# Altium integrated library Maxim Supervisors, Voltage Monitors and Sequencers.IntLib: 631 symbols (part 3 of 13)
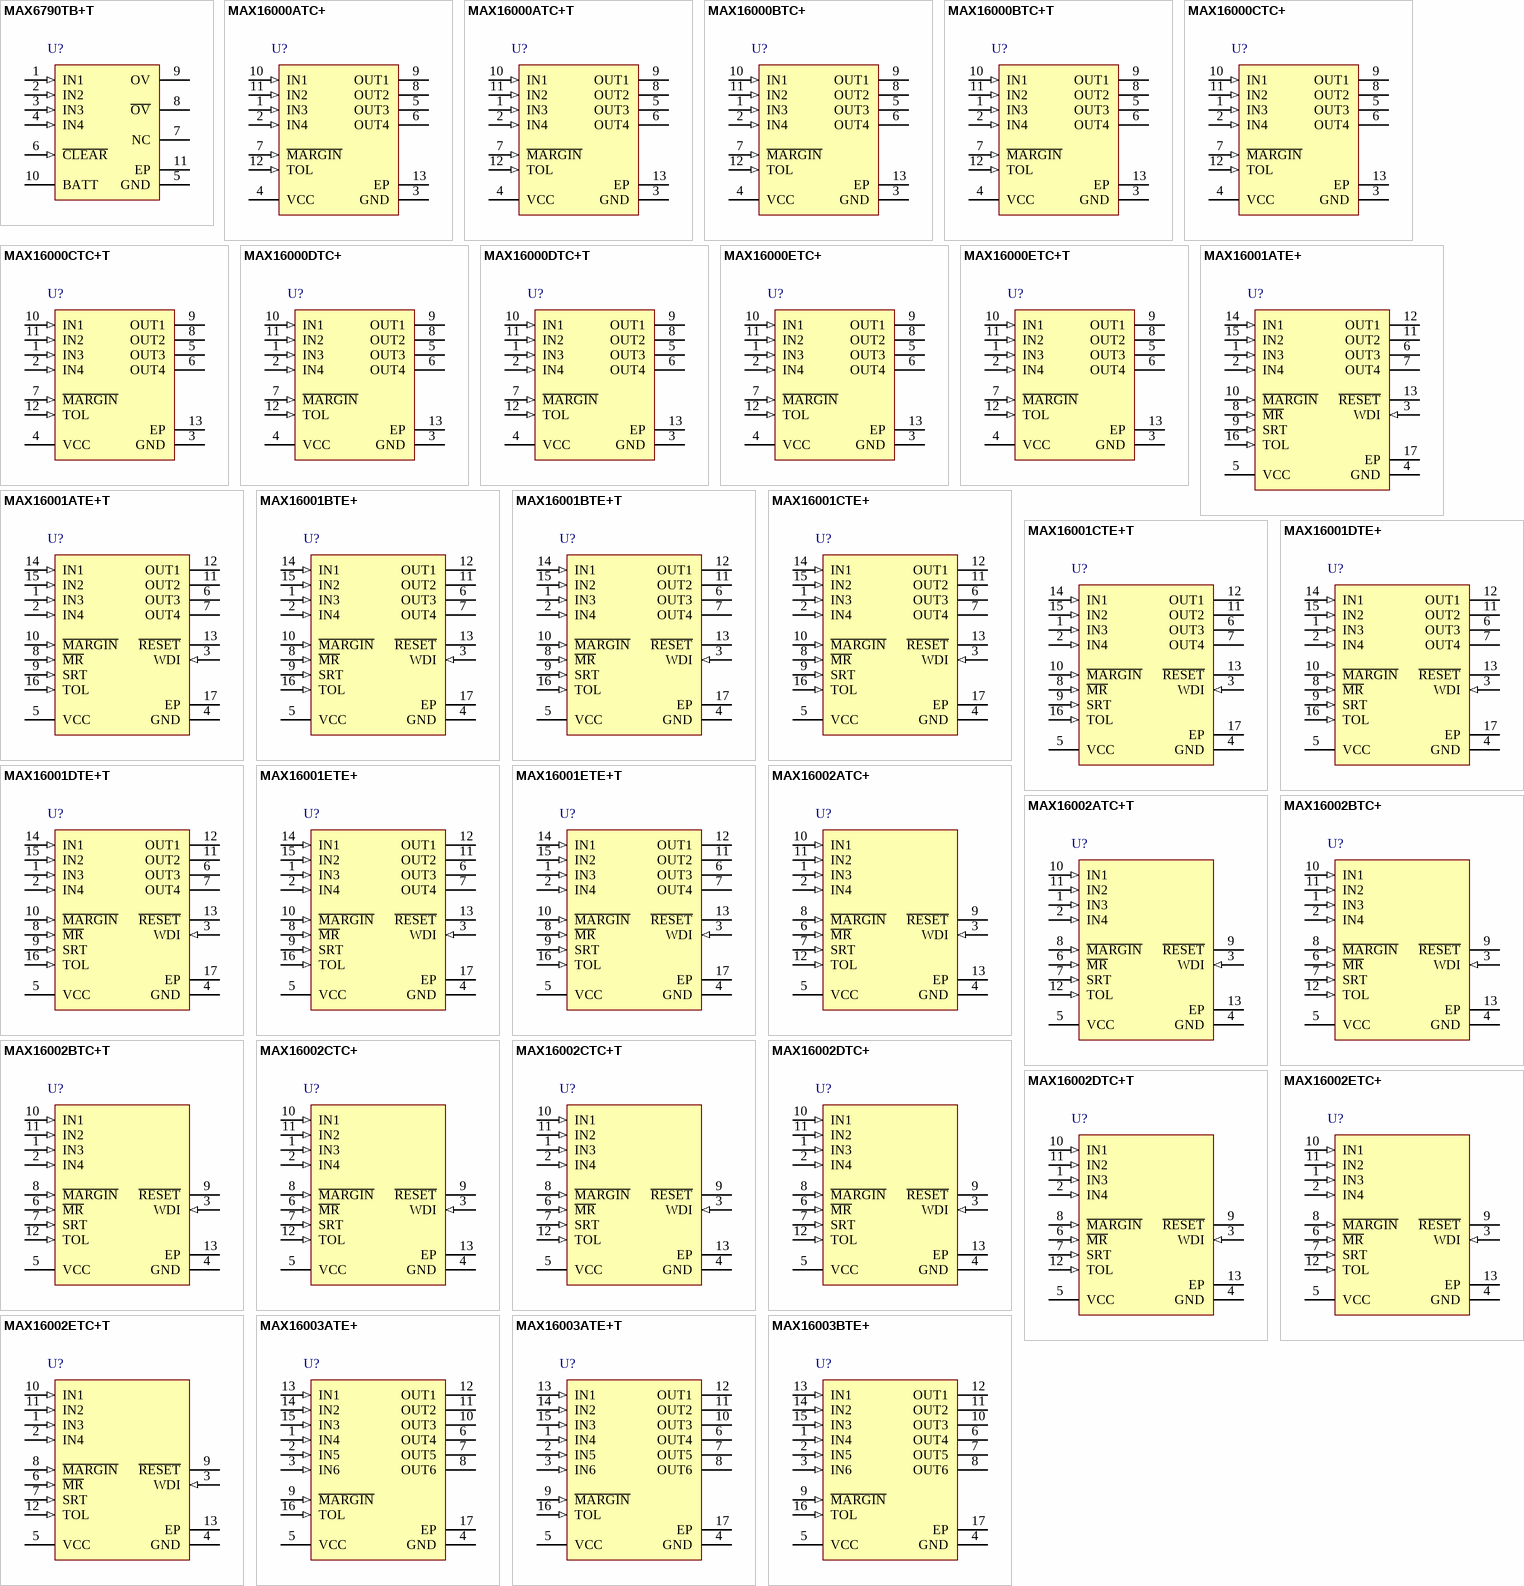
[diagram p19: symbols MAX6790TB+T to MAX16003BTE+]

## MAX16001DTE+T
designator U?
Low-Voltage, Quad-Voltage uP Supervisor , 4 outputs, Reset, WDI, MR, adjustable reset timout, 16-Pin TQFN-EP, -40°C to +125°C, Pb-Free, Tape and Reel; DatasheetVersion: Rev 5, Oct-2010; PackageVersion: revK, 2011; PackageReference: T1644+4; PackageDescription: 16-Pin Thin Quad Flatpack, No-Leads (TQFN), 4 x 4 x 0.75 mm Body, 0.65 mm Pitch, Exposed Pad, Pb-Free; Code_JEDEC: MO-220WGGC; ComponentLink1Description: Manufacturer URL; ComponentLink1URL: http://www.maxim-ic.com; ComponentLink2Description: Datasheet; ComponentLink2URL: http://datasheets.maxim-ic.com/en/ds/MAX16000-MAX16007.pdf; ComponentLink3Description: Package Specification; ComponentLink3URL: http://pdfserv.maxim-ic.com/package_dwgs/21-0139.PDF
footprint T1644+4_N (QFN, 16-Leads, Body 4x4mm, Pitch 0.65mm, Thermal Pad 2.3x2.3mm, IPC Medium Density)
footprint T1644+4_L (QFN, 16-Leads, Body 4x4mm, Pitch 0.65mm, Thermal Pad 2.3x2.3mm, IPC High Density)
footprint T1644+4_M (QFN, 16-Leads, Body 4x4mm, Pitch 0.65mm, Thermal Pad 2.3x2.3mm, IPC Low Density)
pins: 1 IN3 (in), 2 IN4 (in), 3 WDI (in), 4 GND (power), 5 VCC (power), 6 OUT3 (oc), 7 OUT4 (oc), 8 ~{MR} (in), 9 SRT (in), 10 ~{MARGIN} (in), 11 OUT2 (oc), 12 OUT1 (oc), 13 ~{RESET} (oc), 14 IN1 (in), 15 IN2 (in), 16 TOL (in), 17 EP (power)

## MAX16001ETE+
designator U?
Low-Voltage, Quad-Voltage uP Supervisor , 4 outputs, Reset, WDI, MR, adjustable reset timout, 16-Pin TQFN-EP, -40°C to +125°C, Pb-Free; DatasheetVersion: Rev 5, Oct-2010; PackageVersion: revK, 2011; PackageReference: T1644+4; PackageDescription: 16-Pin Thin Quad Flatpack, No-Leads (TQFN), 4 x 4 x 0.75 mm Body, 0.65 mm Pitch, Exposed Pad, Pb-Free; Code_JEDEC: MO-220WGGC; ComponentLink1Description: Manufacturer URL; ComponentLink1URL: http://www.maxim-ic.com; ComponentLink2Description: Datasheet; ComponentLink2URL: http://datasheets.maxim-ic.com/en/ds/MAX16000-MAX16007.pdf; ComponentLink3Description: Package Specification; ComponentLink3URL: http://pdfserv.maxim-ic.com/package_dwgs/21-0139.PDF
footprint T1644+4_N (QFN, 16-Leads, Body 4x4mm, Pitch 0.65mm, Thermal Pad 2.3x2.3mm, IPC Medium Density)
footprint T1644+4_L (QFN, 16-Leads, Body 4x4mm, Pitch 0.65mm, Thermal Pad 2.3x2.3mm, IPC High Density)
footprint T1644+4_M (QFN, 16-Leads, Body 4x4mm, Pitch 0.65mm, Thermal Pad 2.3x2.3mm, IPC Low Density)
pins: 1 IN3 (in), 2 IN4 (in), 3 WDI (in), 4 GND (power), 5 VCC (power), 6 OUT3 (oc), 7 OUT4 (oc), 8 ~{MR} (in), 9 SRT (in), 10 ~{MARGIN} (in), 11 OUT2 (oc), 12 OUT1 (oc), 13 ~{RESET} (oc), 14 IN1 (in), 15 IN2 (in), 16 TOL (in), 17 EP (power)

## MAX16001ETE+T
designator U?
Low-Voltage, Quad-Voltage uP Supervisor , 4 outputs, Reset, WDI, MR, adjustable reset timout, 16-Pin TQFN-EP, -40°C to +125°C, Pb-Free, Tape and Reel; DatasheetVersion: Rev 5, Oct-2010; PackageVersion: revK, 2011; PackageReference: T1644+4; PackageDescription: 16-Pin Thin Quad Flatpack, No-Leads (TQFN), 4 x 4 x 0.75 mm Body, 0.65 mm Pitch, Exposed Pad, Pb-Free; Code_JEDEC: MO-220WGGC; ComponentLink1Description: Manufacturer URL; ComponentLink1URL: http://www.maxim-ic.com; ComponentLink2Description: Datasheet; ComponentLink2URL: http://datasheets.maxim-ic.com/en/ds/MAX16000-MAX16007.pdf; ComponentLink3Description: Package Specification; ComponentLink3URL: http://pdfserv.maxim-ic.com/package_dwgs/21-0139.PDF
footprint T1644+4_N (QFN, 16-Leads, Body 4x4mm, Pitch 0.65mm, Thermal Pad 2.3x2.3mm, IPC Medium Density)
footprint T1644+4_L (QFN, 16-Leads, Body 4x4mm, Pitch 0.65mm, Thermal Pad 2.3x2.3mm, IPC High Density)
footprint T1644+4_M (QFN, 16-Leads, Body 4x4mm, Pitch 0.65mm, Thermal Pad 2.3x2.3mm, IPC Low Density)
pins: 1 IN3 (in), 2 IN4 (in), 3 WDI (in), 4 GND (power), 5 VCC (power), 6 OUT3 (oc), 7 OUT4 (oc), 8 ~{MR} (in), 9 SRT (in), 10 ~{MARGIN} (in), 11 OUT2 (oc), 12 OUT1 (oc), 13 ~{RESET} (oc), 14 IN1 (in), 15 IN2 (in), 16 TOL (in), 17 EP (power)

## MAX16002ATC+
designator U?
Low-Voltage, Quad-Voltage uP Supervisor , Reset, WDI, MR, adjustable reset timout, 12-Pin TQFN-EP, -40°C to +125°C, Pb-Free; DatasheetVersion: Rev 5, Oct-2010; PackageVersion: revJ, 2011; PackageReference: T1244+4; PackageDescription: 12-Pin Thin Quad Flatpack, No Leads, 4 x 4 x 0.75 mm Body, 0.8 mm Pitch, TQFN, Pb-Free; Code_JEDEC: MO-220WGGB; ComponentLink1Description: Manufacturer URL; ComponentLink1URL: http://www.maxim-ic.com; ComponentLink2Description: Datasheet; ComponentLink2URL: http://datasheets.maxim-ic.com/en/ds/MAX16000-MAX16007.pdf; ComponentLink3Description: Package Specification; ComponentLink3URL: http://pdfserv.maxim-ic.com/package_dwgs/21-0139.PDF
footprint T1244+4_V (QFN, 12-Leads, Body 4x4mm, Pitch 0.8mm, Thermal Pad 2.23x2.23mm, Maxim Recommended)
pins: 1 IN3 (in), 2 IN4 (in), 3 WDI (in), 4 GND (power), 5 VCC (power), 6 ~{MR} (in), 7 SRT (in), 8 ~{MARGIN} (in), 9 ~{RESET} (oc), 10 IN1 (in), 11 IN2 (in), 12 TOL (in), 13 EP (power)

## MAX16002ATC+T
designator U?
Low-Voltage, Quad-Voltage uP Supervisor , Reset, WDI, MR, adjustable reset timout, 12-Pin TQFN-EP, -40°C to +125°C, Pb-Free, Tape and Reel; DatasheetVersion: Rev 5, Oct-2010; PackageVersion: revJ, 2011; PackageReference: T1244+4; PackageDescription: 12-Pin Thin Quad Flatpack, No Leads, 4 x 4 x 0.75 mm Body, 0.8 mm Pitch, TQFN, Pb-Free; Code_JEDEC: MO-220WGGB; ComponentLink1Description: Manufacturer URL; ComponentLink1URL: http://www.maxim-ic.com; ComponentLink2Description: Datasheet; ComponentLink2URL: http://datasheets.maxim-ic.com/en/ds/MAX16000-MAX16007.pdf; ComponentLink3Description: Package Specification; ComponentLink3URL: http://pdfserv.maxim-ic.com/package_dwgs/21-0139.PDF
footprint T1244+4_V (QFN, 12-Leads, Body 4x4mm, Pitch 0.8mm, Thermal Pad 2.23x2.23mm, Maxim Recommended)
pins: 1 IN3 (in), 2 IN4 (in), 3 WDI (in), 4 GND (power), 5 VCC (power), 6 ~{MR} (in), 7 SRT (in), 8 ~{MARGIN} (in), 9 ~{RESET} (oc), 10 IN1 (in), 11 IN2 (in), 12 TOL (in), 13 EP (power)

## MAX16002BTC+
designator U?
Low-Voltage, Quad-Voltage uP Supervisor , Reset, WDI, MR, adjustable reset timout, 12-Pin TQFN-EP, -40°C to +125°C, Pb-Free; DatasheetVersion: Rev 5, Oct-2010; PackageVersion: revJ, 2011; PackageReference: T1244+4; PackageDescription: 12-Pin Thin Quad Flatpack, No Leads, 4 x 4 x 0.75 mm Body, 0.8 mm Pitch, TQFN, Pb-Free; Code_JEDEC: MO-220WGGB; ComponentLink1Description: Manufacturer URL; ComponentLink1URL: http://www.maxim-ic.com; ComponentLink2Description: Datasheet; ComponentLink2URL: http://datasheets.maxim-ic.com/en/ds/MAX16000-MAX16007.pdf; ComponentLink3Description: Package Specification; ComponentLink3URL: http://pdfserv.maxim-ic.com/package_dwgs/21-0139.PDF
footprint T1244+4_V (QFN, 12-Leads, Body 4x4mm, Pitch 0.8mm, Thermal Pad 2.23x2.23mm, Maxim Recommended)
pins: 1 IN3 (in), 2 IN4 (in), 3 WDI (in), 4 GND (power), 5 VCC (power), 6 ~{MR} (in), 7 SRT (in), 8 ~{MARGIN} (in), 9 ~{RESET} (oc), 10 IN1 (in), 11 IN2 (in), 12 TOL (in), 13 EP (power)

## MAX16002BTC+T
designator U?
Low-Voltage, Quad-Voltage uP Supervisor , Reset, WDI, MR, adjustable reset timout, 12-Pin TQFN-EP, -40°C to +125°C, Pb-Free, Tape and Reel; DatasheetVersion: Rev 5, Oct-2010; PackageVersion: revJ, 2011; PackageReference: T1244+4; PackageDescription: 12-Pin Thin Quad Flatpack, No Leads, 4 x 4 x 0.75 mm Body, 0.8 mm Pitch, TQFN, Pb-Free; Code_JEDEC: MO-220WGGB; ComponentLink1Description: Manufacturer URL; ComponentLink1URL: http://www.maxim-ic.com; ComponentLink2Description: Datasheet; ComponentLink2URL: http://datasheets.maxim-ic.com/en/ds/MAX16000-MAX16007.pdf; ComponentLink3Description: Package Specification; ComponentLink3URL: http://pdfserv.maxim-ic.com/package_dwgs/21-0139.PDF
footprint T1244+4_V (QFN, 12-Leads, Body 4x4mm, Pitch 0.8mm, Thermal Pad 2.23x2.23mm, Maxim Recommended)
pins: 1 IN3 (in), 2 IN4 (in), 3 WDI (in), 4 GND (power), 5 VCC (power), 6 ~{MR} (in), 7 SRT (in), 8 ~{MARGIN} (in), 9 ~{RESET} (oc), 10 IN1 (in), 11 IN2 (in), 12 TOL (in), 13 EP (power)

## MAX16002CTC+
designator U?
Low-Voltage, Quad-Voltage uP Supervisor , Reset, WDI, MR, adjustable reset timout, 12-Pin TQFN-EP, -40°C to +125°C, Pb-Free; DatasheetVersion: Rev 5, Oct-2010; PackageVersion: revJ, 2011; PackageReference: T1244+4; PackageDescription: 12-Pin Thin Quad Flatpack, No Leads, 4 x 4 x 0.75 mm Body, 0.8 mm Pitch, TQFN, Pb-Free; Code_JEDEC: MO-220WGGB; ComponentLink1Description: Manufacturer URL; ComponentLink1URL: http://www.maxim-ic.com; ComponentLink2Description: Datasheet; ComponentLink2URL: http://datasheets.maxim-ic.com/en/ds/MAX16000-MAX16007.pdf; ComponentLink3Description: Package Specification; ComponentLink3URL: http://pdfserv.maxim-ic.com/package_dwgs/21-0139.PDF
footprint T1244+4_V (QFN, 12-Leads, Body 4x4mm, Pitch 0.8mm, Thermal Pad 2.23x2.23mm, Maxim Recommended)
pins: 1 IN3 (in), 2 IN4 (in), 3 WDI (in), 4 GND (power), 5 VCC (power), 6 ~{MR} (in), 7 SRT (in), 8 ~{MARGIN} (in), 9 ~{RESET} (oc), 10 IN1 (in), 11 IN2 (in), 12 TOL (in), 13 EP (power)

## MAX16002CTC+T
designator U?
Low-Voltage, Quad-Voltage uP Supervisor , Reset, WDI, MR, adjustable reset timout, 12-Pin TQFN-EP, -40°C to +125°C, Pb-Free, Tape and Reel; DatasheetVersion: Rev 5, Oct-2010; PackageVersion: revJ, 2011; PackageReference: T1244+4; PackageDescription: 12-Pin Thin Quad Flatpack, No Leads, 4 x 4 x 0.75 mm Body, 0.8 mm Pitch, TQFN, Pb-Free; Code_JEDEC: MO-220WGGB; ComponentLink1Description: Manufacturer URL; ComponentLink1URL: http://www.maxim-ic.com; ComponentLink2Description: Datasheet; ComponentLink2URL: http://datasheets.maxim-ic.com/en/ds/MAX16000-MAX16007.pdf; ComponentLink3Description: Package Specification; ComponentLink3URL: http://pdfserv.maxim-ic.com/package_dwgs/21-0139.PDF
footprint T1244+4_V (QFN, 12-Leads, Body 4x4mm, Pitch 0.8mm, Thermal Pad 2.23x2.23mm, Maxim Recommended)
pins: 1 IN3 (in), 2 IN4 (in), 3 WDI (in), 4 GND (power), 5 VCC (power), 6 ~{MR} (in), 7 SRT (in), 8 ~{MARGIN} (in), 9 ~{RESET} (oc), 10 IN1 (in), 11 IN2 (in), 12 TOL (in), 13 EP (power)

## MAX16002DTC+
designator U?
Low-Voltage, Quad-Voltage uP Supervisor , Reset, WDI, MR, adjustable reset timout, 12-Pin TQFN-EP, -40°C to +125°C, Pb-Free; DatasheetVersion: Rev 5, Oct-2010; PackageVersion: revJ, 2011; PackageReference: T1244+4; PackageDescription: 12-Pin Thin Quad Flatpack, No Leads, 4 x 4 x 0.75 mm Body, 0.8 mm Pitch, TQFN, Pb-Free; Code_JEDEC: MO-220WGGB; ComponentLink1Description: Manufacturer URL; ComponentLink1URL: http://www.maxim-ic.com; ComponentLink2Description: Datasheet; ComponentLink2URL: http://datasheets.maxim-ic.com/en/ds/MAX16000-MAX16007.pdf; ComponentLink3Description: Package Specification; ComponentLink3URL: http://pdfserv.maxim-ic.com/package_dwgs/21-0139.PDF
footprint T1244+4_V (QFN, 12-Leads, Body 4x4mm, Pitch 0.8mm, Thermal Pad 2.23x2.23mm, Maxim Recommended)
pins: 1 IN3 (in), 2 IN4 (in), 3 WDI (in), 4 GND (power), 5 VCC (power), 6 ~{MR} (in), 7 SRT (in), 8 ~{MARGIN} (in), 9 ~{RESET} (oc), 10 IN1 (in), 11 IN2 (in), 12 TOL (in), 13 EP (power)

## MAX16002DTC+T
designator U?
Low-Voltage, Quad-Voltage uP Supervisor , Reset, WDI, MR, adjustable reset timout, 12-Pin TQFN-EP, -40°C to +125°C, Pb-Free, Tape and Reel; DatasheetVersion: Rev 5, Oct-2010; PackageVersion: revJ, 2011; PackageReference: T1244+4; PackageDescription: 12-Pin Thin Quad Flatpack, No Leads, 4 x 4 x 0.75 mm Body, 0.8 mm Pitch, TQFN, Pb-Free; Code_JEDEC: MO-220WGGB; ComponentLink1Description: Manufacturer URL; ComponentLink1URL: http://www.maxim-ic.com; ComponentLink2Description: Datasheet; ComponentLink2URL: http://datasheets.maxim-ic.com/en/ds/MAX16000-MAX16007.pdf; ComponentLink3Description: Package Specification; ComponentLink3URL: http://pdfserv.maxim-ic.com/package_dwgs/21-0139.PDF
footprint T1244+4_V (QFN, 12-Leads, Body 4x4mm, Pitch 0.8mm, Thermal Pad 2.23x2.23mm, Maxim Recommended)
pins: 1 IN3 (in), 2 IN4 (in), 3 WDI (in), 4 GND (power), 5 VCC (power), 6 ~{MR} (in), 7 SRT (in), 8 ~{MARGIN} (in), 9 ~{RESET} (oc), 10 IN1 (in), 11 IN2 (in), 12 TOL (in), 13 EP (power)

## MAX16002ETC+
designator U?
Low-Voltage, Quad-Voltage uP Supervisor , Reset, WDI, MR, adjustable reset timout, 12-Pin TQFN-EP, -40°C to +125°C, Pb-Free; DatasheetVersion: Rev 5, Oct-2010; PackageVersion: revJ, 2011; PackageReference: T1244+4; PackageDescription: 12-Pin Thin Quad Flatpack, No Leads, 4 x 4 x 0.75 mm Body, 0.8 mm Pitch, TQFN, Pb-Free; Code_JEDEC: MO-220WGGB; ComponentLink1Description: Manufacturer URL; ComponentLink1URL: http://www.maxim-ic.com; ComponentLink2Description: Datasheet; ComponentLink2URL: http://datasheets.maxim-ic.com/en/ds/MAX16000-MAX16007.pdf; ComponentLink3Description: Package Specification; ComponentLink3URL: http://pdfserv.maxim-ic.com/package_dwgs/21-0139.PDF
footprint T1244+4_V (QFN, 12-Leads, Body 4x4mm, Pitch 0.8mm, Thermal Pad 2.23x2.23mm, Maxim Recommended)
pins: 1 IN3 (in), 2 IN4 (in), 3 WDI (in), 4 GND (power), 5 VCC (power), 6 ~{MR} (in), 7 SRT (in), 8 ~{MARGIN} (in), 9 ~{RESET} (oc), 10 IN1 (in), 11 IN2 (in), 12 TOL (in), 13 EP (power)

## MAX16002ETC+T
designator U?
Low-Voltage, Quad-Voltage uP Supervisor , Reset, WDI, MR, adjustable reset timout, 12-Pin TQFN-EP, -40°C to +125°C, Pb-Free, Tape and Reel; DatasheetVersion: Rev 5, Oct-2010; PackageVersion: revJ, 2011; PackageReference: T1244+4; PackageDescription: 12-Pin Thin Quad Flatpack, No Leads, 4 x 4 x 0.75 mm Body, 0.8 mm Pitch, TQFN, Pb-Free; Code_JEDEC: MO-220WGGB; ComponentLink1Description: Manufacturer URL; ComponentLink1URL: http://www.maxim-ic.com; ComponentLink2Description: Datasheet; ComponentLink2URL: http://datasheets.maxim-ic.com/en/ds/MAX16000-MAX16007.pdf; ComponentLink3Description: Package Specification; ComponentLink3URL: http://pdfserv.maxim-ic.com/package_dwgs/21-0139.PDF
footprint T1244+4_V (QFN, 12-Leads, Body 4x4mm, Pitch 0.8mm, Thermal Pad 2.23x2.23mm, Maxim Recommended)
pins: 1 IN3 (in), 2 IN4 (in), 3 WDI (in), 4 GND (power), 5 VCC (power), 6 ~{MR} (in), 7 SRT (in), 8 ~{MARGIN} (in), 9 ~{RESET} (oc), 10 IN1 (in), 11 IN2 (in), 12 TOL (in), 13 EP (power)

## MAX16003ATE+
designator U?
Low-Voltage, Hex-Voltage uP Supervisor , 6 outputs, 16-Pin TQFN-EP, -40°C to +125°C, Pb-Free; DatasheetVersion: Rev 5, Oct-2010; PackageVersion: revK, 2011; PackageReference: T1644+4; PackageDescription: 16-Pin Thin Quad Flatpack, No-Leads (TQFN), 4 x 4 x 0.75 mm Body, 0.65 mm Pitch, Exposed Pad, Pb-Free; Code_JEDEC: MO-220WGGC; ComponentLink1Description: Manufacturer URL; ComponentLink1URL: http://www.maxim-ic.com; ComponentLink2Description: Datasheet; ComponentLink2URL: http://datasheets.maxim-ic.com/en/ds/MAX16000-MAX16007.pdf; ComponentLink3Description: Package Specification; ComponentLink3URL: http://pdfserv.maxim-ic.com/package_dwgs/21-0139.PDF
footprint T1644+4_N (QFN, 16-Leads, Body 4x4mm, Pitch 0.65mm, Thermal Pad 2.3x2.3mm, IPC Medium Density)
footprint T1644+4_L (QFN, 16-Leads, Body 4x4mm, Pitch 0.65mm, Thermal Pad 2.3x2.3mm, IPC High Density)
footprint T1644+4_M (QFN, 16-Leads, Body 4x4mm, Pitch 0.65mm, Thermal Pad 2.3x2.3mm, IPC Low Density)
pins: 1 IN4 (in), 2 IN5 (in), 3 IN6 (in), 4 GND (power), 5 VCC (power), 6 OUT4 (oc), 7 OUT5 (oc), 8 OUT6 (oc), 9 ~{MARGIN} (in), 10 OUT3 (oc), 11 OUT2 (oc), 12 OUT1 (oc), 13 IN1 (in), 14 IN2 (in), 15 IN3 (in), 16 TOL (in), 17 EP (power)

## MAX16003ATE+T
designator U?
Low-Voltage, Hex-Voltage uP Supervisor , 6 outputs, 16-Pin TQFN-EP, -40°C to +125°C, Pb-Free, Tape and Reel; DatasheetVersion: Rev 5, Oct-2010; PackageVersion: revK, 2011; PackageReference: T1644+4; PackageDescription: 16-Pin Thin Quad Flatpack, No-Leads (TQFN), 4 x 4 x 0.75 mm Body, 0.65 mm Pitch, Exposed Pad, Pb-Free; Code_JEDEC: MO-220WGGC; ComponentLink1Description: Manufacturer URL; ComponentLink1URL: http://www.maxim-ic.com; ComponentLink2Description: Datasheet; ComponentLink2URL: http://datasheets.maxim-ic.com/en/ds/MAX16000-MAX16007.pdf; ComponentLink3Description: Package Specification; ComponentLink3URL: http://pdfserv.maxim-ic.com/package_dwgs/21-0139.PDF
footprint T1644+4_N (QFN, 16-Leads, Body 4x4mm, Pitch 0.65mm, Thermal Pad 2.3x2.3mm, IPC Medium Density)
footprint T1644+4_L (QFN, 16-Leads, Body 4x4mm, Pitch 0.65mm, Thermal Pad 2.3x2.3mm, IPC High Density)
footprint T1644+4_M (QFN, 16-Leads, Body 4x4mm, Pitch 0.65mm, Thermal Pad 2.3x2.3mm, IPC Low Density)
pins: 1 IN4 (in), 2 IN5 (in), 3 IN6 (in), 4 GND (power), 5 VCC (power), 6 OUT4 (oc), 7 OUT5 (oc), 8 OUT6 (oc), 9 ~{MARGIN} (in), 10 OUT3 (oc), 11 OUT2 (oc), 12 OUT1 (oc), 13 IN1 (in), 14 IN2 (in), 15 IN3 (in), 16 TOL (in), 17 EP (power)

## MAX16003BTE+
designator U?
Low-Voltage, Hex-Voltage uP Supervisor , 6 outputs, 16-Pin TQFN-EP, -40°C to +125°C, Pb-Free; DatasheetVersion: Rev 5, Oct-2010; PackageVersion: revK, 2011; PackageReference: T1644+4; PackageDescription: 16-Pin Thin Quad Flatpack, No-Leads (TQFN), 4 x 4 x 0.75 mm Body, 0.65 mm Pitch, Exposed Pad, Pb-Free; Code_JEDEC: MO-220WGGC; ComponentLink1Description: Manufacturer URL; ComponentLink1URL: http://www.maxim-ic.com; ComponentLink2Description: Datasheet; ComponentLink2URL: http://datasheets.maxim-ic.com/en/ds/MAX16000-MAX16007.pdf; ComponentLink3Description: Package Specification; ComponentLink3URL: http://pdfserv.maxim-ic.com/package_dwgs/21-0139.PDF
footprint T1644+4_N (QFN, 16-Leads, Body 4x4mm, Pitch 0.65mm, Thermal Pad 2.3x2.3mm, IPC Medium Density)
footprint T1644+4_L (QFN, 16-Leads, Body 4x4mm, Pitch 0.65mm, Thermal Pad 2.3x2.3mm, IPC High Density)
footprint T1644+4_M (QFN, 16-Leads, Body 4x4mm, Pitch 0.65mm, Thermal Pad 2.3x2.3mm, IPC Low Density)
pins: 1 IN4 (in), 2 IN5 (in), 3 IN6 (in), 4 GND (power), 5 VCC (power), 6 OUT4 (oc), 7 OUT5 (oc), 8 OUT6 (oc), 9 ~{MARGIN} (in), 10 OUT3 (oc), 11 OUT2 (oc), 12 OUT1 (oc), 13 IN1 (in), 14 IN2 (in), 15 IN3 (in), 16 TOL (in), 17 EP (power)

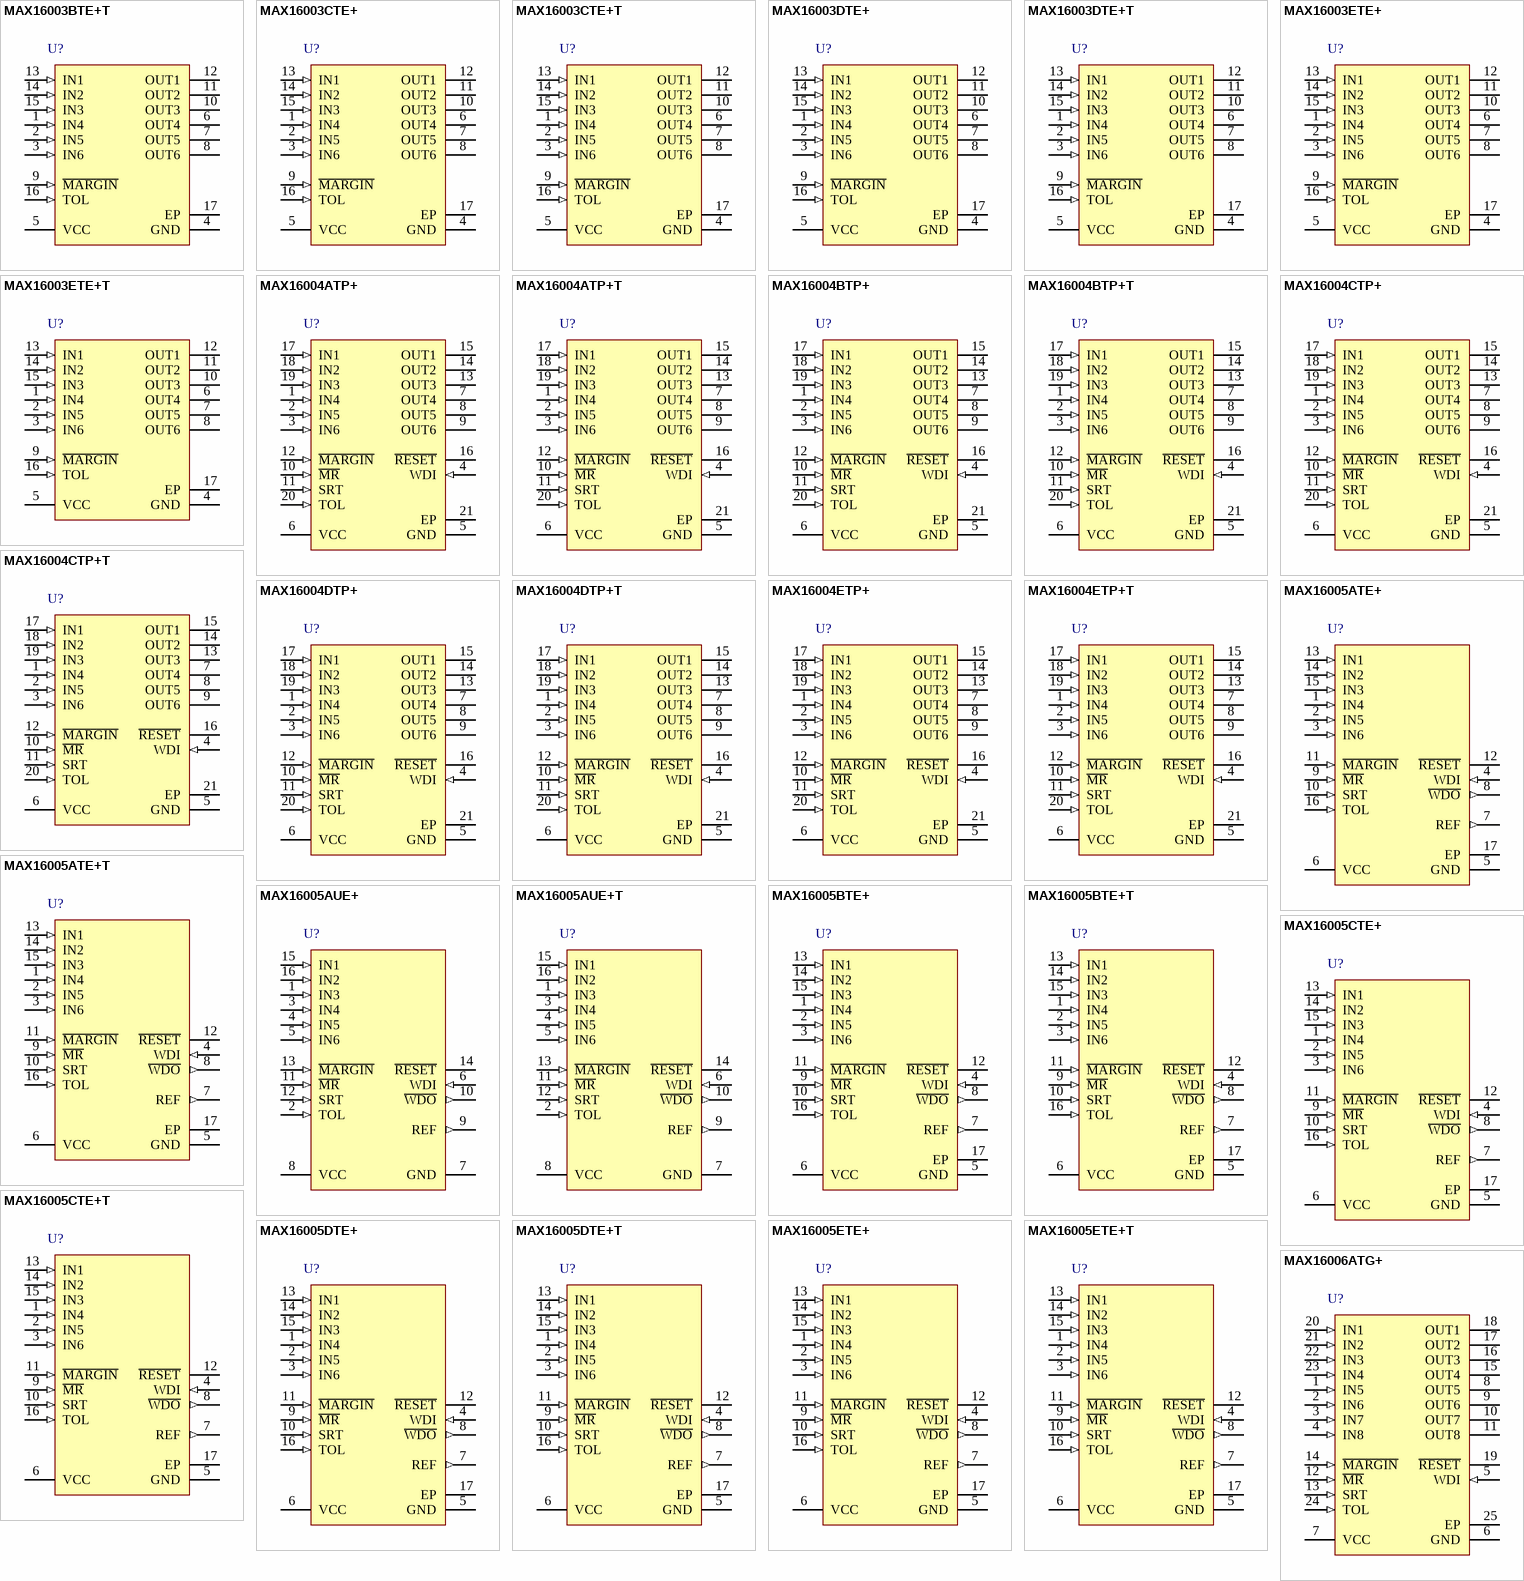
[diagram p3: symbols MAX16003BTE+T to MAX16006ATG+]

## MAX16003BTE+T
designator U?
Low-Voltage, Hex-Voltage uP Supervisor , 6 outputs, 16-Pin TQFN-EP, -40°C to +125°C, Pb-Free, Tape and Reel; DatasheetVersion: Rev 5, Oct-2010; PackageVersion: revK, 2011; PackageReference: T1644+4; PackageDescription: 16-Pin Thin Quad Flatpack, No-Leads (TQFN), 4 x 4 x 0.75 mm Body, 0.65 mm Pitch, Exposed Pad, Pb-Free; Code_JEDEC: MO-220WGGC; ComponentLink1Description: Manufacturer URL; ComponentLink1URL: http://www.maxim-ic.com; ComponentLink2Description: Datasheet; ComponentLink2URL: http://datasheets.maxim-ic.com/en/ds/MAX16000-MAX16007.pdf; ComponentLink3Description: Package Specification; ComponentLink3URL: http://pdfserv.maxim-ic.com/package_dwgs/21-0139.PDF
footprint T1644+4_N (QFN, 16-Leads, Body 4x4mm, Pitch 0.65mm, Thermal Pad 2.3x2.3mm, IPC Medium Density)
footprint T1644+4_L (QFN, 16-Leads, Body 4x4mm, Pitch 0.65mm, Thermal Pad 2.3x2.3mm, IPC High Density)
footprint T1644+4_M (QFN, 16-Leads, Body 4x4mm, Pitch 0.65mm, Thermal Pad 2.3x2.3mm, IPC Low Density)
pins: 1 IN4 (in), 2 IN5 (in), 3 IN6 (in), 4 GND (power), 5 VCC (power), 6 OUT4 (oc), 7 OUT5 (oc), 8 OUT6 (oc), 9 ~{MARGIN} (in), 10 OUT3 (oc), 11 OUT2 (oc), 12 OUT1 (oc), 13 IN1 (in), 14 IN2 (in), 15 IN3 (in), 16 TOL (in), 17 EP (power)

## MAX16003CTE+
designator U?
Low-Voltage, Hex-Voltage uP Supervisor , 6 outputs, 16-Pin TQFN-EP, -40°C to +125°C, Pb-Free; DatasheetVersion: Rev 5, Oct-2010; PackageVersion: revK, 2011; PackageReference: T1644+4; PackageDescription: 16-Pin Thin Quad Flatpack, No-Leads (TQFN), 4 x 4 x 0.75 mm Body, 0.65 mm Pitch, Exposed Pad, Pb-Free; Code_JEDEC: MO-220WGGC; ComponentLink1Description: Manufacturer URL; ComponentLink1URL: http://www.maxim-ic.com; ComponentLink2Description: Datasheet; ComponentLink2URL: http://datasheets.maxim-ic.com/en/ds/MAX16000-MAX16007.pdf; ComponentLink3Description: Package Specification; ComponentLink3URL: http://pdfserv.maxim-ic.com/package_dwgs/21-0139.PDF
footprint T1644+4_N (QFN, 16-Leads, Body 4x4mm, Pitch 0.65mm, Thermal Pad 2.3x2.3mm, IPC Medium Density)
footprint T1644+4_L (QFN, 16-Leads, Body 4x4mm, Pitch 0.65mm, Thermal Pad 2.3x2.3mm, IPC High Density)
footprint T1644+4_M (QFN, 16-Leads, Body 4x4mm, Pitch 0.65mm, Thermal Pad 2.3x2.3mm, IPC Low Density)
pins: 1 IN4 (in), 2 IN5 (in), 3 IN6 (in), 4 GND (power), 5 VCC (power), 6 OUT4 (oc), 7 OUT5 (oc), 8 OUT6 (oc), 9 ~{MARGIN} (in), 10 OUT3 (oc), 11 OUT2 (oc), 12 OUT1 (oc), 13 IN1 (in), 14 IN2 (in), 15 IN3 (in), 16 TOL (in), 17 EP (power)

## MAX16003CTE+T
designator U?
Low-Voltage, Hex-Voltage uP Supervisor , 6 outputs, 16-Pin TQFN-EP, -40°C to +125°C, Pb-Free, Tape and Reel; DatasheetVersion: Rev 5, Oct-2010; PackageVersion: revK, 2011; PackageReference: T1644+4; PackageDescription: 16-Pin Thin Quad Flatpack, No-Leads (TQFN), 4 x 4 x 0.75 mm Body, 0.65 mm Pitch, Exposed Pad, Pb-Free; Code_JEDEC: MO-220WGGC; ComponentLink1Description: Manufacturer URL; ComponentLink1URL: http://www.maxim-ic.com; ComponentLink2Description: Datasheet; ComponentLink2URL: http://datasheets.maxim-ic.com/en/ds/MAX16000-MAX16007.pdf; ComponentLink3Description: Package Specification; ComponentLink3URL: http://pdfserv.maxim-ic.com/package_dwgs/21-0139.PDF
footprint T1644+4_N (QFN, 16-Leads, Body 4x4mm, Pitch 0.65mm, Thermal Pad 2.3x2.3mm, IPC Medium Density)
footprint T1644+4_L (QFN, 16-Leads, Body 4x4mm, Pitch 0.65mm, Thermal Pad 2.3x2.3mm, IPC High Density)
footprint T1644+4_M (QFN, 16-Leads, Body 4x4mm, Pitch 0.65mm, Thermal Pad 2.3x2.3mm, IPC Low Density)
pins: 1 IN4 (in), 2 IN5 (in), 3 IN6 (in), 4 GND (power), 5 VCC (power), 6 OUT4 (oc), 7 OUT5 (oc), 8 OUT6 (oc), 9 ~{MARGIN} (in), 10 OUT3 (oc), 11 OUT2 (oc), 12 OUT1 (oc), 13 IN1 (in), 14 IN2 (in), 15 IN3 (in), 16 TOL (in), 17 EP (power)

## MAX16003DTE+
designator U?
Low-Voltage, Hex-Voltage uP Supervisor , 6 outputs, 16-Pin TQFN-EP, -40°C to +125°C, Pb-Free; DatasheetVersion: Rev 5, Oct-2010; PackageVersion: revK, 2011; PackageReference: T1644+4; PackageDescription: 16-Pin Thin Quad Flatpack, No-Leads (TQFN), 4 x 4 x 0.75 mm Body, 0.65 mm Pitch, Exposed Pad, Pb-Free; Code_JEDEC: MO-220WGGC; ComponentLink1Description: Manufacturer URL; ComponentLink1URL: http://www.maxim-ic.com; ComponentLink2Description: Datasheet; ComponentLink2URL: http://datasheets.maxim-ic.com/en/ds/MAX16000-MAX16007.pdf; ComponentLink3Description: Package Specification; ComponentLink3URL: http://pdfserv.maxim-ic.com/package_dwgs/21-0139.PDF
footprint T1644+4_N (QFN, 16-Leads, Body 4x4mm, Pitch 0.65mm, Thermal Pad 2.3x2.3mm, IPC Medium Density)
footprint T1644+4_L (QFN, 16-Leads, Body 4x4mm, Pitch 0.65mm, Thermal Pad 2.3x2.3mm, IPC High Density)
footprint T1644+4_M (QFN, 16-Leads, Body 4x4mm, Pitch 0.65mm, Thermal Pad 2.3x2.3mm, IPC Low Density)
pins: 1 IN4 (in), 2 IN5 (in), 3 IN6 (in), 4 GND (power), 5 VCC (power), 6 OUT4 (oc), 7 OUT5 (oc), 8 OUT6 (oc), 9 ~{MARGIN} (in), 10 OUT3 (oc), 11 OUT2 (oc), 12 OUT1 (oc), 13 IN1 (in), 14 IN2 (in), 15 IN3 (in), 16 TOL (in), 17 EP (power)

## MAX16003DTE+T
designator U?
Low-Voltage, Hex-Voltage uP Supervisor , 6 outputs, 16-Pin TQFN-EP, -40°C to +125°C, Pb-Free, Tape and Reel; DatasheetVersion: Rev 5, Oct-2010; PackageVersion: revK, 2011; PackageReference: T1644+4; PackageDescription: 16-Pin Thin Quad Flatpack, No-Leads (TQFN), 4 x 4 x 0.75 mm Body, 0.65 mm Pitch, Exposed Pad, Pb-Free; Code_JEDEC: MO-220WGGC; ComponentLink1Description: Manufacturer URL; ComponentLink1URL: http://www.maxim-ic.com; ComponentLink2Description: Datasheet; ComponentLink2URL: http://datasheets.maxim-ic.com/en/ds/MAX16000-MAX16007.pdf; ComponentLink3Description: Package Specification; ComponentLink3URL: http://pdfserv.maxim-ic.com/package_dwgs/21-0139.PDF
footprint T1644+4_N (QFN, 16-Leads, Body 4x4mm, Pitch 0.65mm, Thermal Pad 2.3x2.3mm, IPC Medium Density)
footprint T1644+4_L (QFN, 16-Leads, Body 4x4mm, Pitch 0.65mm, Thermal Pad 2.3x2.3mm, IPC High Density)
footprint T1644+4_M (QFN, 16-Leads, Body 4x4mm, Pitch 0.65mm, Thermal Pad 2.3x2.3mm, IPC Low Density)
pins: 1 IN4 (in), 2 IN5 (in), 3 IN6 (in), 4 GND (power), 5 VCC (power), 6 OUT4 (oc), 7 OUT5 (oc), 8 OUT6 (oc), 9 ~{MARGIN} (in), 10 OUT3 (oc), 11 OUT2 (oc), 12 OUT1 (oc), 13 IN1 (in), 14 IN2 (in), 15 IN3 (in), 16 TOL (in), 17 EP (power)

## MAX16003ETE+
designator U?
Low-Voltage, Hex-Voltage uP Supervisor , 6 outputs, 16-Pin TQFN-EP, -40°C to +125°C, Pb-Free; DatasheetVersion: Rev 5, Oct-2010; PackageVersion: revK, 2011; PackageReference: T1644+4; PackageDescription: 16-Pin Thin Quad Flatpack, No-Leads (TQFN), 4 x 4 x 0.75 mm Body, 0.65 mm Pitch, Exposed Pad, Pb-Free; Code_JEDEC: MO-220WGGC; ComponentLink1Description: Manufacturer URL; ComponentLink1URL: http://www.maxim-ic.com; ComponentLink2Description: Datasheet; ComponentLink2URL: http://datasheets.maxim-ic.com/en/ds/MAX16000-MAX16007.pdf; ComponentLink3Description: Package Specification; ComponentLink3URL: http://pdfserv.maxim-ic.com/package_dwgs/21-0139.PDF
footprint T1644+4_N (QFN, 16-Leads, Body 4x4mm, Pitch 0.65mm, Thermal Pad 2.3x2.3mm, IPC Medium Density)
footprint T1644+4_L (QFN, 16-Leads, Body 4x4mm, Pitch 0.65mm, Thermal Pad 2.3x2.3mm, IPC High Density)
footprint T1644+4_M (QFN, 16-Leads, Body 4x4mm, Pitch 0.65mm, Thermal Pad 2.3x2.3mm, IPC Low Density)
pins: 1 IN4 (in), 2 IN5 (in), 3 IN6 (in), 4 GND (power), 5 VCC (power), 6 OUT4 (oc), 7 OUT5 (oc), 8 OUT6 (oc), 9 ~{MARGIN} (in), 10 OUT3 (oc), 11 OUT2 (oc), 12 OUT1 (oc), 13 IN1 (in), 14 IN2 (in), 15 IN3 (in), 16 TOL (in), 17 EP (power)

## MAX16003ETE+T
designator U?
Low-Voltage, Hex-Voltage uP Supervisor , 6 outputs, 16-Pin TQFN-EP, -40°C to +125°C, Pb-Free, Tape and Reel; DatasheetVersion: Rev 5, Oct-2010; PackageVersion: revK, 2011; PackageReference: T1644+4; PackageDescription: 16-Pin Thin Quad Flatpack, No-Leads (TQFN), 4 x 4 x 0.75 mm Body, 0.65 mm Pitch, Exposed Pad, Pb-Free; Code_JEDEC: MO-220WGGC; ComponentLink1Description: Manufacturer URL; ComponentLink1URL: http://www.maxim-ic.com; ComponentLink2Description: Datasheet; ComponentLink2URL: http://datasheets.maxim-ic.com/en/ds/MAX16000-MAX16007.pdf; ComponentLink3Description: Package Specification; ComponentLink3URL: http://pdfserv.maxim-ic.com/package_dwgs/21-0139.PDF
footprint T1644+4_N (QFN, 16-Leads, Body 4x4mm, Pitch 0.65mm, Thermal Pad 2.3x2.3mm, IPC Medium Density)
footprint T1644+4_L (QFN, 16-Leads, Body 4x4mm, Pitch 0.65mm, Thermal Pad 2.3x2.3mm, IPC High Density)
footprint T1644+4_M (QFN, 16-Leads, Body 4x4mm, Pitch 0.65mm, Thermal Pad 2.3x2.3mm, IPC Low Density)
pins: 1 IN4 (in), 2 IN5 (in), 3 IN6 (in), 4 GND (power), 5 VCC (power), 6 OUT4 (oc), 7 OUT5 (oc), 8 OUT6 (oc), 9 ~{MARGIN} (in), 10 OUT3 (oc), 11 OUT2 (oc), 12 OUT1 (oc), 13 IN1 (in), 14 IN2 (in), 15 IN3 (in), 16 TOL (in), 17 EP (power)

## MAX16004ATP+
designator U?
Low-Voltage, Hex-Voltage uP Supervisor , 6 outputs, Reset, WDI, MR, adjustable reset timout, 20-Pin TQFN-EP, -40°C to +125°C, Pb-Free; DatasheetVersion: Rev 5, Oct-2010; PackageVersion: revK, 2011; PackageReference: T2044+3; PackageDescription: 20-Pin Thin Quad Flatpack, No-Leads, 4 x 4 x 0.75 mm Body, 0.5 mm Pitch, TQFN, Pb-Free; Code_JEDEC: MO-220; ComponentLink1Description: Manufacturer URL; ComponentLink1URL: http://www.maxim-ic.com; ComponentLink2Description: Datasheet; ComponentLink2URL: http://datasheets.maxim-ic.com/en/ds/MAX16000-MAX16007.pdf; ComponentLink3Description: Package Specification; ComponentLink3URL: http://pdfserv.maxim-ic.com/package_dwgs/21-0139.PDF
footprint T2044+3_N (QFN, 20-Leads, Body 4x4mm, Pitch 0.5mm, Thermal Pad 2.1x2.1mm, IPC Medium Density)
footprint T2044+3_L (QFN, 20-Leads, Body 4x4mm, Pitch 0.5mm, Thermal Pad 2.1x2.1mm, IPC High Density)
footprint T2044+3_M (QFN, 20-Leads, Body 4x4mm, Pitch 0.5mm, Thermal Pad 2.1x2.1mm, IPC Low Density)
pins: 1 IN4 (in), 2 IN5 (in), 3 IN6 (in), 4 WDI (in), 5 GND (power), 6 VCC (power), 7 OUT4 (oc), 8 OUT5 (oc), 9 OUT6 (oc), 10 ~{MR} (in), 11 SRT (in), 12 ~{MARGIN} (in), 13 OUT3 (oc), 14 OUT2 (oc), 15 OUT1 (oc), 16 ~{RESET} (oc), 17 IN1 (in), 18 IN2 (in), 19 IN3 (in), 20 TOL (in), 21 EP (power)

## MAX16004ATP+T
designator U?
Low-Voltage, Hex-Voltage uP Supervisor , 6 outputs, Reset, WDI, MR, adjustable reset timout, 20-Pin TQFN-EP, -40°C to +125°C, Pb-Free, Tape and Reel; DatasheetVersion: Rev 5, Oct-2010; PackageVersion: revK, 2011; PackageReference: T2044+3; PackageDescription: 20-Pin Thin Quad Flatpack, No-Leads, 4 x 4 x 0.75 mm Body, 0.5 mm Pitch, TQFN, Pb-Free; Code_JEDEC: MO-220; ComponentLink1Description: Manufacturer URL; ComponentLink1URL: http://www.maxim-ic.com; ComponentLink2Description: Datasheet; ComponentLink2URL: http://datasheets.maxim-ic.com/en/ds/MAX16000-MAX16007.pdf; ComponentLink3Description: Package Specification; ComponentLink3URL: http://pdfserv.maxim-ic.com/package_dwgs/21-0139.PDF
footprint T2044+3_N (QFN, 20-Leads, Body 4x4mm, Pitch 0.5mm, Thermal Pad 2.1x2.1mm, IPC Medium Density)
footprint T2044+3_L (QFN, 20-Leads, Body 4x4mm, Pitch 0.5mm, Thermal Pad 2.1x2.1mm, IPC High Density)
footprint T2044+3_M (QFN, 20-Leads, Body 4x4mm, Pitch 0.5mm, Thermal Pad 2.1x2.1mm, IPC Low Density)
pins: 1 IN4 (in), 2 IN5 (in), 3 IN6 (in), 4 WDI (in), 5 GND (power), 6 VCC (power), 7 OUT4 (oc), 8 OUT5 (oc), 9 OUT6 (oc), 10 ~{MR} (in), 11 SRT (in), 12 ~{MARGIN} (in), 13 OUT3 (oc), 14 OUT2 (oc), 15 OUT1 (oc), 16 ~{RESET} (oc), 17 IN1 (in), 18 IN2 (in), 19 IN3 (in), 20 TOL (in), 21 EP (power)

## MAX16004BTP+
designator U?
Low-Voltage, Hex-Voltage uP Supervisor , 6 outputs, Reset, WDI, MR, adjustable reset timout, 20-Pin TQFN-EP, -40°C to +125°C, Pb-Free; DatasheetVersion: Rev 5, Oct-2010; PackageVersion: revK, 2011; PackageReference: T2044+3; PackageDescription: 20-Pin Thin Quad Flatpack, No-Leads, 4 x 4 x 0.75 mm Body, 0.5 mm Pitch, TQFN, Pb-Free; Code_JEDEC: MO-220; ComponentLink1Description: Manufacturer URL; ComponentLink1URL: http://www.maxim-ic.com; ComponentLink2Description: Datasheet; ComponentLink2URL: http://datasheets.maxim-ic.com/en/ds/MAX16000-MAX16007.pdf; ComponentLink3Description: Package Specification; ComponentLink3URL: http://pdfserv.maxim-ic.com/package_dwgs/21-0139.PDF
footprint T2044+3_N (QFN, 20-Leads, Body 4x4mm, Pitch 0.5mm, Thermal Pad 2.1x2.1mm, IPC Medium Density)
footprint T2044+3_L (QFN, 20-Leads, Body 4x4mm, Pitch 0.5mm, Thermal Pad 2.1x2.1mm, IPC High Density)
footprint T2044+3_M (QFN, 20-Leads, Body 4x4mm, Pitch 0.5mm, Thermal Pad 2.1x2.1mm, IPC Low Density)
pins: 1 IN4 (in), 2 IN5 (in), 3 IN6 (in), 4 WDI (in), 5 GND (power), 6 VCC (power), 7 OUT4 (oc), 8 OUT5 (oc), 9 OUT6 (oc), 10 ~{MR} (in), 11 SRT (in), 12 ~{MARGIN} (in), 13 OUT3 (oc), 14 OUT2 (oc), 15 OUT1 (oc), 16 ~{RESET} (oc), 17 IN1 (in), 18 IN2 (in), 19 IN3 (in), 20 TOL (in), 21 EP (power)

## MAX16004BTP+T
designator U?
Low-Voltage, Hex-Voltage uP Supervisor , 6 outputs, Reset, WDI, MR, adjustable reset timout, 20-Pin TQFN-EP, -40°C to +125°C, Pb-Free, Tape and Reel; DatasheetVersion: Rev 5, Oct-2010; PackageVersion: revK, 2011; PackageReference: T2044+3; PackageDescription: 20-Pin Thin Quad Flatpack, No-Leads, 4 x 4 x 0.75 mm Body, 0.5 mm Pitch, TQFN, Pb-Free; Code_JEDEC: MO-220; ComponentLink1Description: Manufacturer URL; ComponentLink1URL: http://www.maxim-ic.com; ComponentLink2Description: Datasheet; ComponentLink2URL: http://datasheets.maxim-ic.com/en/ds/MAX16000-MAX16007.pdf; ComponentLink3Description: Package Specification; ComponentLink3URL: http://pdfserv.maxim-ic.com/package_dwgs/21-0139.PDF
footprint T2044+3_N (QFN, 20-Leads, Body 4x4mm, Pitch 0.5mm, Thermal Pad 2.1x2.1mm, IPC Medium Density)
footprint T2044+3_L (QFN, 20-Leads, Body 4x4mm, Pitch 0.5mm, Thermal Pad 2.1x2.1mm, IPC High Density)
footprint T2044+3_M (QFN, 20-Leads, Body 4x4mm, Pitch 0.5mm, Thermal Pad 2.1x2.1mm, IPC Low Density)
pins: 1 IN4 (in), 2 IN5 (in), 3 IN6 (in), 4 WDI (in), 5 GND (power), 6 VCC (power), 7 OUT4 (oc), 8 OUT5 (oc), 9 OUT6 (oc), 10 ~{MR} (in), 11 SRT (in), 12 ~{MARGIN} (in), 13 OUT3 (oc), 14 OUT2 (oc), 15 OUT1 (oc), 16 ~{RESET} (oc), 17 IN1 (in), 18 IN2 (in), 19 IN3 (in), 20 TOL (in), 21 EP (power)

## MAX16004CTP+
designator U?
Low-Voltage, Hex-Voltage uP Supervisor , 6 outputs, Reset, WDI, MR, adjustable reset timout, 20-Pin TQFN-EP, -40°C to +125°C, Pb-Free; DatasheetVersion: Rev 5, Oct-2010; PackageVersion: revK, 2011; PackageReference: T2044+3; PackageDescription: 20-Pin Thin Quad Flatpack, No-Leads, 4 x 4 x 0.75 mm Body, 0.5 mm Pitch, TQFN, Pb-Free; Code_JEDEC: MO-220; ComponentLink1Description: Manufacturer URL; ComponentLink1URL: http://www.maxim-ic.com; ComponentLink2Description: Datasheet; ComponentLink2URL: http://datasheets.maxim-ic.com/en/ds/MAX16000-MAX16007.pdf; ComponentLink3Description: Package Specification; ComponentLink3URL: http://pdfserv.maxim-ic.com/package_dwgs/21-0139.PDF
footprint T2044+3_N (QFN, 20-Leads, Body 4x4mm, Pitch 0.5mm, Thermal Pad 2.1x2.1mm, IPC Medium Density)
footprint T2044+3_L (QFN, 20-Leads, Body 4x4mm, Pitch 0.5mm, Thermal Pad 2.1x2.1mm, IPC High Density)
footprint T2044+3_M (QFN, 20-Leads, Body 4x4mm, Pitch 0.5mm, Thermal Pad 2.1x2.1mm, IPC Low Density)
pins: 1 IN4 (in), 2 IN5 (in), 3 IN6 (in), 4 WDI (in), 5 GND (power), 6 VCC (power), 7 OUT4 (oc), 8 OUT5 (oc), 9 OUT6 (oc), 10 ~{MR} (in), 11 SRT (in), 12 ~{MARGIN} (in), 13 OUT3 (oc), 14 OUT2 (oc), 15 OUT1 (oc), 16 ~{RESET} (oc), 17 IN1 (in), 18 IN2 (in), 19 IN3 (in), 20 TOL (in), 21 EP (power)

## MAX16004CTP+T
designator U?
Low-Voltage, Hex-Voltage uP Supervisor , 6 outputs, Reset, WDI, MR, adjustable reset timout, 20-Pin TQFN-EP, -40°C to +125°C, Pb-Free, Tape and Reel; DatasheetVersion: Rev 5, Oct-2010; PackageVersion: revK, 2011; PackageReference: T2044+3; PackageDescription: 20-Pin Thin Quad Flatpack, No-Leads, 4 x 4 x 0.75 mm Body, 0.5 mm Pitch, TQFN, Pb-Free; Code_JEDEC: MO-220; ComponentLink1Description: Manufacturer URL; ComponentLink1URL: http://www.maxim-ic.com; ComponentLink2Description: Datasheet; ComponentLink2URL: http://datasheets.maxim-ic.com/en/ds/MAX16000-MAX16007.pdf; ComponentLink3Description: Package Specification; ComponentLink3URL: http://pdfserv.maxim-ic.com/package_dwgs/21-0139.PDF
footprint T2044+3_N (QFN, 20-Leads, Body 4x4mm, Pitch 0.5mm, Thermal Pad 2.1x2.1mm, IPC Medium Density)
footprint T2044+3_L (QFN, 20-Leads, Body 4x4mm, Pitch 0.5mm, Thermal Pad 2.1x2.1mm, IPC High Density)
footprint T2044+3_M (QFN, 20-Leads, Body 4x4mm, Pitch 0.5mm, Thermal Pad 2.1x2.1mm, IPC Low Density)
pins: 1 IN4 (in), 2 IN5 (in), 3 IN6 (in), 4 WDI (in), 5 GND (power), 6 VCC (power), 7 OUT4 (oc), 8 OUT5 (oc), 9 OUT6 (oc), 10 ~{MR} (in), 11 SRT (in), 12 ~{MARGIN} (in), 13 OUT3 (oc), 14 OUT2 (oc), 15 OUT1 (oc), 16 ~{RESET} (oc), 17 IN1 (in), 18 IN2 (in), 19 IN3 (in), 20 TOL (in), 21 EP (power)

## MAX16004DTP+
designator U?
Low-Voltage, Hex-Voltage uP Supervisor , 6 outputs, Reset, WDI, MR, adjustable reset timout, 20-Pin TQFN-EP, -40°C to +125°C, Pb-Free; DatasheetVersion: Rev 5, Oct-2010; PackageVersion: revK, 2011; PackageReference: T2044+3; PackageDescription: 20-Pin Thin Quad Flatpack, No-Leads, 4 x 4 x 0.75 mm Body, 0.5 mm Pitch, TQFN, Pb-Free; Code_JEDEC: MO-220; ComponentLink1Description: Manufacturer URL; ComponentLink1URL: http://www.maxim-ic.com; ComponentLink2Description: Datasheet; ComponentLink2URL: http://datasheets.maxim-ic.com/en/ds/MAX16000-MAX16007.pdf; ComponentLink3Description: Package Specification; ComponentLink3URL: http://pdfserv.maxim-ic.com/package_dwgs/21-0139.PDF
footprint T2044+3_N (QFN, 20-Leads, Body 4x4mm, Pitch 0.5mm, Thermal Pad 2.1x2.1mm, IPC Medium Density)
footprint T2044+3_L (QFN, 20-Leads, Body 4x4mm, Pitch 0.5mm, Thermal Pad 2.1x2.1mm, IPC High Density)
footprint T2044+3_M (QFN, 20-Leads, Body 4x4mm, Pitch 0.5mm, Thermal Pad 2.1x2.1mm, IPC Low Density)
pins: 1 IN4 (in), 2 IN5 (in), 3 IN6 (in), 4 WDI (in), 5 GND (power), 6 VCC (power), 7 OUT4 (oc), 8 OUT5 (oc), 9 OUT6 (oc), 10 ~{MR} (in), 11 SRT (in), 12 ~{MARGIN} (in), 13 OUT3 (oc), 14 OUT2 (oc), 15 OUT1 (oc), 16 ~{RESET} (oc), 17 IN1 (in), 18 IN2 (in), 19 IN3 (in), 20 TOL (in), 21 EP (power)

## MAX16004DTP+T
designator U?
Low-Voltage, Hex-Voltage uP Supervisor , 6 outputs, Reset, WDI, MR, adjustable reset timout, 20-Pin TQFN-EP, -40°C to +125°C, Pb-Free, Tape and Reel; DatasheetVersion: Rev 5, Oct-2010; PackageVersion: revK, 2011; PackageReference: T2044+3; PackageDescription: 20-Pin Thin Quad Flatpack, No-Leads, 4 x 4 x 0.75 mm Body, 0.5 mm Pitch, TQFN, Pb-Free; Code_JEDEC: MO-220; ComponentLink1Description: Manufacturer URL; ComponentLink1URL: http://www.maxim-ic.com; ComponentLink2Description: Datasheet; ComponentLink2URL: http://datasheets.maxim-ic.com/en/ds/MAX16000-MAX16007.pdf; ComponentLink3Description: Package Specification; ComponentLink3URL: http://pdfserv.maxim-ic.com/package_dwgs/21-0139.PDF
footprint T2044+3_N (QFN, 20-Leads, Body 4x4mm, Pitch 0.5mm, Thermal Pad 2.1x2.1mm, IPC Medium Density)
footprint T2044+3_L (QFN, 20-Leads, Body 4x4mm, Pitch 0.5mm, Thermal Pad 2.1x2.1mm, IPC High Density)
footprint T2044+3_M (QFN, 20-Leads, Body 4x4mm, Pitch 0.5mm, Thermal Pad 2.1x2.1mm, IPC Low Density)
pins: 1 IN4 (in), 2 IN5 (in), 3 IN6 (in), 4 WDI (in), 5 GND (power), 6 VCC (power), 7 OUT4 (oc), 8 OUT5 (oc), 9 OUT6 (oc), 10 ~{MR} (in), 11 SRT (in), 12 ~{MARGIN} (in), 13 OUT3 (oc), 14 OUT2 (oc), 15 OUT1 (oc), 16 ~{RESET} (oc), 17 IN1 (in), 18 IN2 (in), 19 IN3 (in), 20 TOL (in), 21 EP (power)

## MAX16004ETP+
designator U?
Low-Voltage, Hex-Voltage uP Supervisor , 6 outputs, Reset, WDI, MR, adjustable reset timout, 20-Pin TQFN-EP, -40°C to +125°C, Pb-Free; DatasheetVersion: Rev 5, Oct-2010; PackageVersion: revK, 2011; PackageReference: T2044+3; PackageDescription: 20-Pin Thin Quad Flatpack, No-Leads, 4 x 4 x 0.75 mm Body, 0.5 mm Pitch, TQFN, Pb-Free; Code_JEDEC: MO-220; ComponentLink1Description: Manufacturer URL; ComponentLink1URL: http://www.maxim-ic.com; ComponentLink2Description: Datasheet; ComponentLink2URL: http://datasheets.maxim-ic.com/en/ds/MAX16000-MAX16007.pdf; ComponentLink3Description: Package Specification; ComponentLink3URL: http://pdfserv.maxim-ic.com/package_dwgs/21-0139.PDF
footprint T2044+3_N (QFN, 20-Leads, Body 4x4mm, Pitch 0.5mm, Thermal Pad 2.1x2.1mm, IPC Medium Density)
footprint T2044+3_L (QFN, 20-Leads, Body 4x4mm, Pitch 0.5mm, Thermal Pad 2.1x2.1mm, IPC High Density)
footprint T2044+3_M (QFN, 20-Leads, Body 4x4mm, Pitch 0.5mm, Thermal Pad 2.1x2.1mm, IPC Low Density)
pins: 1 IN4 (in), 2 IN5 (in), 3 IN6 (in), 4 WDI (in), 5 GND (power), 6 VCC (power), 7 OUT4 (oc), 8 OUT5 (oc), 9 OUT6 (oc), 10 ~{MR} (in), 11 SRT (in), 12 ~{MARGIN} (in), 13 OUT3 (oc), 14 OUT2 (oc), 15 OUT1 (oc), 16 ~{RESET} (oc), 17 IN1 (in), 18 IN2 (in), 19 IN3 (in), 20 TOL (in), 21 EP (power)

## MAX16004ETP+T
designator U?
Low-Voltage, Hex-Voltage uP Supervisor , 6 outputs, Reset, WDI, MR, adjustable reset timout, 20-Pin TQFN-EP, -40°C to +125°C, Pb-Free, Tape and Reel; DatasheetVersion: Rev 5, Oct-2010; PackageVersion: revK, 2011; PackageReference: T2044+3; PackageDescription: 20-Pin Thin Quad Flatpack, No-Leads, 4 x 4 x 0.75 mm Body, 0.5 mm Pitch, TQFN, Pb-Free; Code_JEDEC: MO-220; ComponentLink1Description: Manufacturer URL; ComponentLink1URL: http://www.maxim-ic.com; ComponentLink2Description: Datasheet; ComponentLink2URL: http://datasheets.maxim-ic.com/en/ds/MAX16000-MAX16007.pdf; ComponentLink3Description: Package Specification; ComponentLink3URL: http://pdfserv.maxim-ic.com/package_dwgs/21-0139.PDF
footprint T2044+3_N (QFN, 20-Leads, Body 4x4mm, Pitch 0.5mm, Thermal Pad 2.1x2.1mm, IPC Medium Density)
footprint T2044+3_L (QFN, 20-Leads, Body 4x4mm, Pitch 0.5mm, Thermal Pad 2.1x2.1mm, IPC High Density)
footprint T2044+3_M (QFN, 20-Leads, Body 4x4mm, Pitch 0.5mm, Thermal Pad 2.1x2.1mm, IPC Low Density)
pins: 1 IN4 (in), 2 IN5 (in), 3 IN6 (in), 4 WDI (in), 5 GND (power), 6 VCC (power), 7 OUT4 (oc), 8 OUT5 (oc), 9 OUT6 (oc), 10 ~{MR} (in), 11 SRT (in), 12 ~{MARGIN} (in), 13 OUT3 (oc), 14 OUT2 (oc), 15 OUT1 (oc), 16 ~{RESET} (oc), 17 IN1 (in), 18 IN2 (in), 19 IN3 (in), 20 TOL (in), 21 EP (power)

## MAX16005ATE+
designator U?
Low-Voltage, Hex-Voltage uP Supervisor , Reset, WDI/WDO, MR, adjustable reset timout, 16-Pin TQFN-EP, -40°C to +125°C, Pb-Free; DatasheetVersion: Rev 5, Oct-2010; PackageVersion: revK, 2011; PackageReference: T1644+4; PackageDescription: 16-Pin Thin Quad Flatpack, No-Leads (TQFN), 4 x 4 x 0.75 mm Body, 0.65 mm Pitch, Exposed Pad, Pb-Free; Code_JEDEC: MO-220WGGC; ComponentLink1Description: Manufacturer URL; ComponentLink1URL: http://www.maxim-ic.com; ComponentLink2Description: Datasheet; ComponentLink2URL: http://datasheets.maxim-ic.com/en/ds/MAX16000-MAX16007.pdf; ComponentLink3Description: Package Specification; ComponentLink3URL: http://pdfserv.maxim-ic.com/package_dwgs/21-0139.PDF
footprint T1644+4_N (QFN, 16-Leads, Body 4x4mm, Pitch 0.65mm, Thermal Pad 2.3x2.3mm, IPC Medium Density)
footprint T1644+4_L (QFN, 16-Leads, Body 4x4mm, Pitch 0.65mm, Thermal Pad 2.3x2.3mm, IPC High Density)
footprint T1644+4_M (QFN, 16-Leads, Body 4x4mm, Pitch 0.65mm, Thermal Pad 2.3x2.3mm, IPC Low Density)
pins: 1 IN4 (in), 2 IN5 (in), 3 IN6 (in), 4 WDI (in), 5 GND (power), 6 VCC (power), 7 REF (out), 8 ~{WDO} (out), 9 ~{MR} (in), 10 SRT (in), 11 ~{MARGIN} (in), 12 ~{RESET} (oc), 13 IN1 (in), 14 IN2 (in), 15 IN3 (in), 16 TOL (in), 17 EP (power)

## MAX16005ATE+T
designator U?
Low-Voltage, Hex-Voltage uP Supervisor , Reset, WDI/WDO, MR, adjustable reset timout, 16-Pin TQFN-EP, -40°C to +125°C, Pb-Free, Tape and Reel; DatasheetVersion: Rev 5, Oct-2010; PackageVersion: revK, 2011; PackageReference: T1644+4; PackageDescription: 16-Pin Thin Quad Flatpack, No-Leads (TQFN), 4 x 4 x 0.75 mm Body, 0.65 mm Pitch, Exposed Pad, Pb-Free; Code_JEDEC: MO-220WGGC; ComponentLink1Description: Manufacturer URL; ComponentLink1URL: http://www.maxim-ic.com; ComponentLink2Description: Datasheet; ComponentLink2URL: http://datasheets.maxim-ic.com/en/ds/MAX16000-MAX16007.pdf; ComponentLink3Description: Package Specification; ComponentLink3URL: http://pdfserv.maxim-ic.com/package_dwgs/21-0139.PDF
footprint T1644+4_N (QFN, 16-Leads, Body 4x4mm, Pitch 0.65mm, Thermal Pad 2.3x2.3mm, IPC Medium Density)
footprint T1644+4_L (QFN, 16-Leads, Body 4x4mm, Pitch 0.65mm, Thermal Pad 2.3x2.3mm, IPC High Density)
footprint T1644+4_M (QFN, 16-Leads, Body 4x4mm, Pitch 0.65mm, Thermal Pad 2.3x2.3mm, IPC Low Density)
pins: 1 IN4 (in), 2 IN5 (in), 3 IN6 (in), 4 WDI (in), 5 GND (power), 6 VCC (power), 7 REF (out), 8 ~{WDO} (out), 9 ~{MR} (in), 10 SRT (in), 11 ~{MARGIN} (in), 12 ~{RESET} (oc), 13 IN1 (in), 14 IN2 (in), 15 IN3 (in), 16 TOL (in), 17 EP (power)

## MAX16005AUE+
designator U?
Low-Voltage, Hex-Voltage uP Supervisor , Reset, WDI/WDO, MR, adjustable reset timout, 16-Pin TSSOP, -40°C to +125°C, Pb-Free; DatasheetVersion: Rev 5, Oct-2010; PackageVersion: revL, 2010; PackageReference: U16+2; PackageDescription: 16-Pin Thin Shrink Small-Outline Package, 4.4 mm Body, TSSOP, Pb-Free; Code_JEDEC: MO-153-AB; ComponentLink1Description: Manufacturer URL; ComponentLink1URL: http://www.maxim-ic.com; ComponentLink2Description: Datasheet; ComponentLink2URL: http://datasheets.maxim-ic.com/en/ds/MAX16000-MAX16007.pdf; ComponentLink3Description: Package Specification; ComponentLink3URL: http://pdfserv.maxim-ic.com/package_dwgs/21-0139.PDF
footprint U16+2_N (TSOP, 14-Leads, Body 5x4.4mm, Pitch 0.65mm, IPC Medium Density)
footprint U16+2_L (TSOP, 14-Leads, Body 5x4.4mm, Pitch 0.65mm, IPC High Density)
footprint U16+2_M (TSOP, 14-Leads, Body 5x4.4mm, Pitch 0.65mm, IPC Low Density)
pins: 1 IN3 (in), 2 TOL (in), 3 IN4 (in), 4 IN5 (in), 5 IN6 (in), 6 WDI (in), 7 GND (power), 8 VCC (power), 9 REF (out), 10 ~{WDO} (out), 11 ~{MR} (in), 12 SRT (in), 13 ~{MARGIN} (in), 14 ~{RESET} (oc), 15 IN1 (in), 16 IN2 (in)

## MAX16005AUE+T
designator U?
Low-Voltage, Hex-Voltage uP Supervisor , Reset, WDI/WDO, MR, adjustable reset timout, 16-Pin TSSOP, -40°C to +125°C, Pb-Free, Tape and Reel; DatasheetVersion: Rev 5, Oct-2010; PackageVersion: revL, 2010; PackageReference: U16+2; PackageDescription: 16-Pin Thin Shrink Small-Outline Package, 4.4 mm Body, TSSOP, Pb-Free; Code_JEDEC: MO-153-AB; ComponentLink1Description: Manufacturer URL; ComponentLink1URL: http://www.maxim-ic.com; ComponentLink2Description: Datasheet; ComponentLink2URL: http://datasheets.maxim-ic.com/en/ds/MAX16000-MAX16007.pdf; ComponentLink3Description: Package Specification; ComponentLink3URL: http://pdfserv.maxim-ic.com/package_dwgs/21-0139.PDF
footprint U16+2_N (TSOP, 14-Leads, Body 5x4.4mm, Pitch 0.65mm, IPC Medium Density)
footprint U16+2_L (TSOP, 14-Leads, Body 5x4.4mm, Pitch 0.65mm, IPC High Density)
footprint U16+2_M (TSOP, 14-Leads, Body 5x4.4mm, Pitch 0.65mm, IPC Low Density)
pins: 1 IN3 (in), 2 TOL (in), 3 IN4 (in), 4 IN5 (in), 5 IN6 (in), 6 WDI (in), 7 GND (power), 8 VCC (power), 9 REF (out), 10 ~{WDO} (out), 11 ~{MR} (in), 12 SRT (in), 13 ~{MARGIN} (in), 14 ~{RESET} (oc), 15 IN1 (in), 16 IN2 (in)

## MAX16005BTE+
designator U?
Low-Voltage, Hex-Voltage uP Supervisor , Reset, WDI/WDO, MR, adjustable reset timout, 16-Pin TQFN-EP, -40°C to +125°C, Pb-Free; DatasheetVersion: Rev 5, Oct-2010; PackageVersion: revK, 2011; PackageReference: T1644+4; PackageDescription: 16-Pin Thin Quad Flatpack, No-Leads (TQFN), 4 x 4 x 0.75 mm Body, 0.65 mm Pitch, Exposed Pad, Pb-Free; Code_JEDEC: MO-220WGGC; ComponentLink1Description: Manufacturer URL; ComponentLink1URL: http://www.maxim-ic.com; ComponentLink2Description: Datasheet; ComponentLink2URL: http://datasheets.maxim-ic.com/en/ds/MAX16000-MAX16007.pdf; ComponentLink3Description: Package Specification; ComponentLink3URL: http://pdfserv.maxim-ic.com/package_dwgs/21-0139.PDF
footprint T1644+4_N (QFN, 16-Leads, Body 4x4mm, Pitch 0.65mm, Thermal Pad 2.3x2.3mm, IPC Medium Density)
footprint T1644+4_L (QFN, 16-Leads, Body 4x4mm, Pitch 0.65mm, Thermal Pad 2.3x2.3mm, IPC High Density)
footprint T1644+4_M (QFN, 16-Leads, Body 4x4mm, Pitch 0.65mm, Thermal Pad 2.3x2.3mm, IPC Low Density)
pins: 1 IN4 (in), 2 IN5 (in), 3 IN6 (in), 4 WDI (in), 5 GND (power), 6 VCC (power), 7 REF (out), 8 ~{WDO} (out), 9 ~{MR} (in), 10 SRT (in), 11 ~{MARGIN} (in), 12 ~{RESET} (oc), 13 IN1 (in), 14 IN2 (in), 15 IN3 (in), 16 TOL (in), 17 EP (power)

## MAX16005BTE+T
designator U?
Low-Voltage, Hex-Voltage uP Supervisor , Reset, WDI/WDO, MR, adjustable reset timout, 16-Pin TQFN-EP, -40°C to +125°C, Pb-Free, Tape and Reel; DatasheetVersion: Rev 5, Oct-2010; PackageVersion: revK, 2011; PackageReference: T1644+4; PackageDescription: 16-Pin Thin Quad Flatpack, No-Leads (TQFN), 4 x 4 x 0.75 mm Body, 0.65 mm Pitch, Exposed Pad, Pb-Free; Code_JEDEC: MO-220WGGC; ComponentLink1Description: Manufacturer URL; ComponentLink1URL: http://www.maxim-ic.com; ComponentLink2Description: Datasheet; ComponentLink2URL: http://datasheets.maxim-ic.com/en/ds/MAX16000-MAX16007.pdf; ComponentLink3Description: Package Specification; ComponentLink3URL: http://pdfserv.maxim-ic.com/package_dwgs/21-0139.PDF
footprint T1644+4_N (QFN, 16-Leads, Body 4x4mm, Pitch 0.65mm, Thermal Pad 2.3x2.3mm, IPC Medium Density)
footprint T1644+4_L (QFN, 16-Leads, Body 4x4mm, Pitch 0.65mm, Thermal Pad 2.3x2.3mm, IPC High Density)
footprint T1644+4_M (QFN, 16-Leads, Body 4x4mm, Pitch 0.65mm, Thermal Pad 2.3x2.3mm, IPC Low Density)
pins: 1 IN4 (in), 2 IN5 (in), 3 IN6 (in), 4 WDI (in), 5 GND (power), 6 VCC (power), 7 REF (out), 8 ~{WDO} (out), 9 ~{MR} (in), 10 SRT (in), 11 ~{MARGIN} (in), 12 ~{RESET} (oc), 13 IN1 (in), 14 IN2 (in), 15 IN3 (in), 16 TOL (in), 17 EP (power)

## MAX16005CTE+
designator U?
Low-Voltage, Hex-Voltage uP Supervisor , Reset, WDI/WDO, MR, adjustable reset timout, 16-Pin TQFN-EP, -40°C to +125°C, Pb-Free; DatasheetVersion: Rev 5, Oct-2010; PackageVersion: revK, 2011; PackageReference: T1644+4; PackageDescription: 16-Pin Thin Quad Flatpack, No-Leads (TQFN), 4 x 4 x 0.75 mm Body, 0.65 mm Pitch, Exposed Pad, Pb-Free; Code_JEDEC: MO-220WGGC; ComponentLink1Description: Manufacturer URL; ComponentLink1URL: http://www.maxim-ic.com; ComponentLink2Description: Datasheet; ComponentLink2URL: http://datasheets.maxim-ic.com/en/ds/MAX16000-MAX16007.pdf; ComponentLink3Description: Package Specification; ComponentLink3URL: http://pdfserv.maxim-ic.com/package_dwgs/21-0139.PDF
footprint T1644+4_N (QFN, 16-Leads, Body 4x4mm, Pitch 0.65mm, Thermal Pad 2.3x2.3mm, IPC Medium Density)
footprint T1644+4_L (QFN, 16-Leads, Body 4x4mm, Pitch 0.65mm, Thermal Pad 2.3x2.3mm, IPC High Density)
footprint T1644+4_M (QFN, 16-Leads, Body 4x4mm, Pitch 0.65mm, Thermal Pad 2.3x2.3mm, IPC Low Density)
pins: 1 IN4 (in), 2 IN5 (in), 3 IN6 (in), 4 WDI (in), 5 GND (power), 6 VCC (power), 7 REF (out), 8 ~{WDO} (out), 9 ~{MR} (in), 10 SRT (in), 11 ~{MARGIN} (in), 12 ~{RESET} (oc), 13 IN1 (in), 14 IN2 (in), 15 IN3 (in), 16 TOL (in), 17 EP (power)

## MAX16005CTE+T
designator U?
Low-Voltage, Hex-Voltage uP Supervisor , Reset, WDI/WDO, MR, adjustable reset timout, 16-Pin TQFN-EP, -40°C to +125°C, Pb-Free, Tape and Reel; DatasheetVersion: Rev 5, Oct-2010; PackageVersion: revK, 2011; PackageReference: T1644+4; PackageDescription: 16-Pin Thin Quad Flatpack, No-Leads (TQFN), 4 x 4 x 0.75 mm Body, 0.65 mm Pitch, Exposed Pad, Pb-Free; Code_JEDEC: MO-220WGGC; ComponentLink1Description: Manufacturer URL; ComponentLink1URL: http://www.maxim-ic.com; ComponentLink2Description: Datasheet; ComponentLink2URL: http://datasheets.maxim-ic.com/en/ds/MAX16000-MAX16007.pdf; ComponentLink3Description: Package Specification; ComponentLink3URL: http://pdfserv.maxim-ic.com/package_dwgs/21-0139.PDF
footprint T1644+4_N (QFN, 16-Leads, Body 4x4mm, Pitch 0.65mm, Thermal Pad 2.3x2.3mm, IPC Medium Density)
footprint T1644+4_L (QFN, 16-Leads, Body 4x4mm, Pitch 0.65mm, Thermal Pad 2.3x2.3mm, IPC High Density)
footprint T1644+4_M (QFN, 16-Leads, Body 4x4mm, Pitch 0.65mm, Thermal Pad 2.3x2.3mm, IPC Low Density)
pins: 1 IN4 (in), 2 IN5 (in), 3 IN6 (in), 4 WDI (in), 5 GND (power), 6 VCC (power), 7 REF (out), 8 ~{WDO} (out), 9 ~{MR} (in), 10 SRT (in), 11 ~{MARGIN} (in), 12 ~{RESET} (oc), 13 IN1 (in), 14 IN2 (in), 15 IN3 (in), 16 TOL (in), 17 EP (power)